# Altium schematic symbol library PE4312C-Z.SchLib: 1 symbol
Pins are listed as number, name and electrical type; pins without a type are passive.

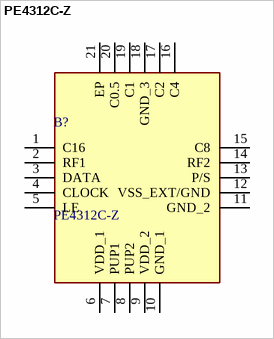
[diagram p0: symbol PE4312C-Z]

## PE4312C-Z
designator B?
RF ATTENUATOR 31.5DB 50OHM 20QFN; Manufacturer_Name: Peregrine Semiconductor; Geometry.Height: 0.9mm; Mouser Part Number: 81-PE4312C-Z; Mouser Price/Stock: https://www.mouser.co.uk/ProductDetail/pSemi/PE4312C-Z?qs=l7cgNqFNU1hgFbGgRtu7ww%3D%3D; Manufacturer_Part_Number: PE4312C-Z; Datasheet Link: https://www.psemi.com/pdf/datasheets/pe4312ds.pdf
footprint QFN50P400X400X90-21N-D
pins: 1 C16, 2 RF1, 3 DATA, 4 CLOCK, 5 LE, 6 VDD_1, 7 PUP1, 8 PUP2, 9 VDD_2, 10 GND_1, 11 GND_2, 12 VSS_EXT/GND, 13 P/S, 14 RF2, 15 C8, 16 C4, 17 C2, 18 GND_3, 19 C1, 20 C0.5, 21 EP